# EAGLE library part 6PINS_LEDFLANGE (library WallerLabLib)
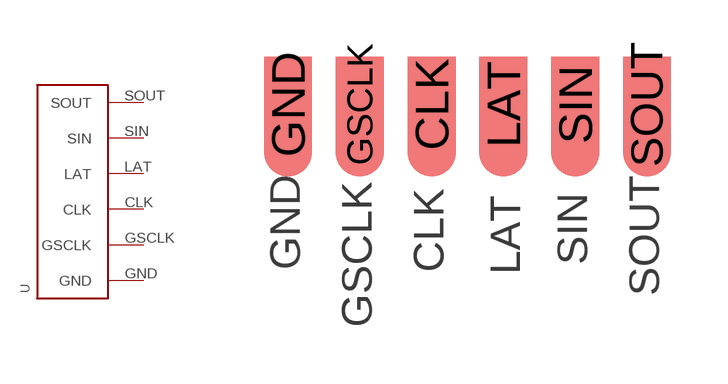
[diagram p15: symbol with the pads of 6PIN_PADS; footprint 6PIN_PADS]

Designator prefix -

## 6PINS_LEDFLANGEV1  [6PIN_PADS]
CLK  CLK
GND  GND
GSCLK  GSCLK
LAT  LAT
SIN  SIN
SOUT  SOUT

## Footprint 6PIN_PADS (pad centres in mm)
smd 1.27 x 2.54: CLK -0.953,0; GND -4.763,0; GSCLK -2.857,0; LAT 0.953,0; SIN 2.857,0; SOUT 4.763,0